# EAGLE library part MOSFET_DUAL-N (library CougsInSpace-DiscreteSemi)
P-Channel MOSFET Array - 2
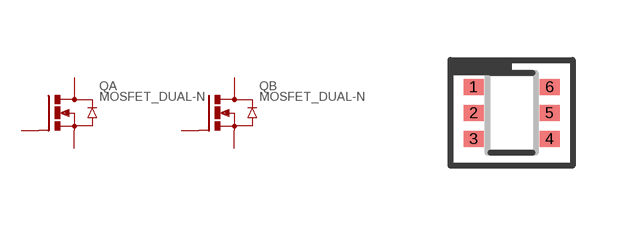
[diagram p1: symbol with the pads of SOT363; footprint SOT363]

Designator prefix Q; gates A=MOSFET-NCHANNEL B=MOSFET-NCHANNEL

## MOSFET_DUAL-N-DMN53D0LDW-SOT363 (CURRENT: 250mA; RDS: 2.5Ω; SKU: 56-0007; VALUE: DMN53D0LDW; VDS: 50V)  [SOT363]
1  A:S  pas
2  A:G  pas
3  B:D  pas
4  B:S  pas
5  B:G  pas
6  A:D  pas

## Footprint SOT363 (pad centres in mm)
SOT363 (SC70-6)
smd 0.5 x 0.4: 1 -0.95,0.65; 2 -0.95,0; 3 -0.95,-0.65; 4 0.95,-0.65; 5 0.95,0; 6 0.95,0.65